# Altium footprint library crw.PcbLib: 5 footprints
Each footprint in its own frame and in the unit in brackets; x right, y up, seen from the top. Pads: shape width x height; smd on the part's side, far side on the other; paste and mask are expansions set on the pad; w line width, h text height; cw(c..) or ccw(c..) is an arc to the next point about the centre after c.
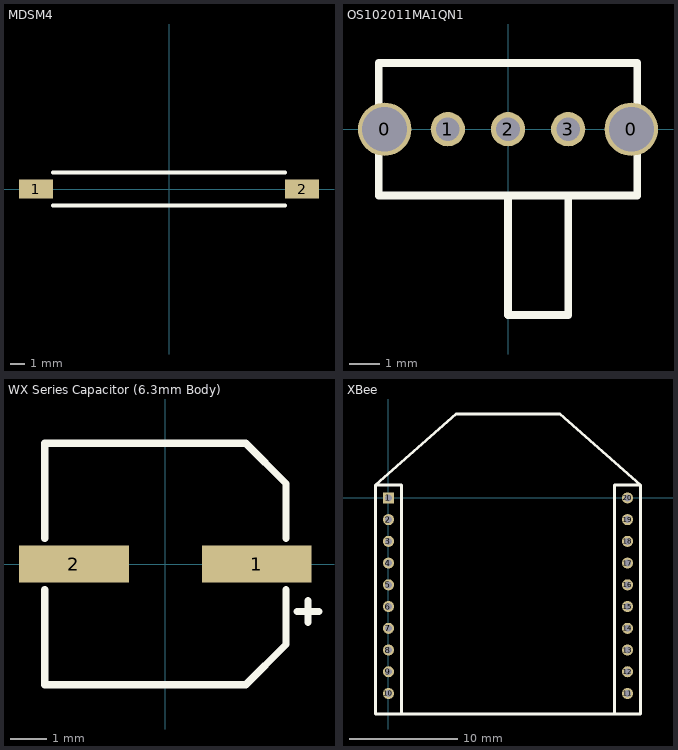
[diagram p0: the footprints below, top view; thin cyan lines are the x and y axes]

## LGA-10 [mil] "Land Grid Array 10-lead (3x5x1 mm)"

## MDSM4 [mil] "MDSM-4 REED SWITCH"
height 112
pads (2):
  rect 92x51 smd: 1(-361,0) 2(361,0)
Top Overlay:
  lines w10: -315,-45 315,-45 ; -315,45 315,45

## OS102011MA1QN1 [mil] "Miniature SPDT Slide Switch"
height 185
pads (5):
  round 70 hole 59: 0(-162,0) 0(162,0)
  round 45 hole 31: 1(-79,0) 2(0,0) 3(79,0)
Top Overlay:
  lines w10: 0,-87 0,-244 79,-244 79,-87 ; -170,-87 -170,87 170,87 170,-87 -170,-87

## WX Series Capacitor (6.3mm Body) [mm]
pads (2):
  rect 3x1 smd: 1(2.5,0) 2(-2.5,0)
Top Overlay:
  lines w0.2: -3.3,-0.7 -3.3,-3.3 2.2,-3.3 3.3,-2.2 3.3,-0.7 ; -3.3,0.7 -3.3,3.3 2.2,3.3 3.3,2.2 3.3,0.7 ; 3.6,-1.3 4.2,-1.3 ; 3.9,-1.6 3.9,-1

## XBee [mil] "XBee Module"
height 113
pads (20):
  rect 40x40 hole 25: 1(0,0)
  round 40 hole 25: 2(0,-78.74) 3(0,-157.48) 4(0,-236.22) 5(0,-314.96) 6(0,-393.7) 7(0,-472.44) 8(0,-551.18) 9(0,-629.92) 10(0,-708.66) 11(866,-708.66) 12(866,-629.92) 13(866,-551.18) 14(866,-472.44) 15(866,-393.7) 16(866,-314.96) 17(866,-236.22) 18(866,-157.48) 19(866,-78.74) 20(866,0)
Top Overlay:
  lines w10: 47,-783 47,47 -47,47 ; 819,-783 819,47 913,47 ; -47,47 245,304 621,304 913,47 ; -47,47 -47,-783 913,-783 913,47